# Altium integrated library TC2030-MCP-NL (1) - Copy.IntLib: 1 symbol
Pins are listed as number, name and electrical type; pins without a type are passive.

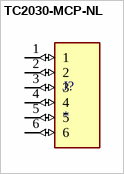
[diagram p0: symbol TC2030-MCP-NL]

## TC2030-MCP-NL
designator J?
MPLABÂ® REAL ICE, ICD 3, PICkit 3, PICkit 2 Plug-Of-Nailsâ„¢ Adapter Cable; MF: Tag-Connect LLC; MP: TC2030-MCP-NL; SnapEDA_Link: https://www.snapeda.com/parts/TC2030-MCP-NL/Tag-Connect/view-part/?ref=snap; Package: None; Value: *; Check_prices: https://www.snapeda.com/parts/TC2030-MCP-NL/Tag-Connect/view-part/?ref=eda
footprint TC2030-MCP-NL
pins: 1 (io), 2 (io), 3 (io), 4 (io), 5 (io), 6 (io)